# EAGLE library part FPC-SOCKET-60P-0.5 (library Connector)
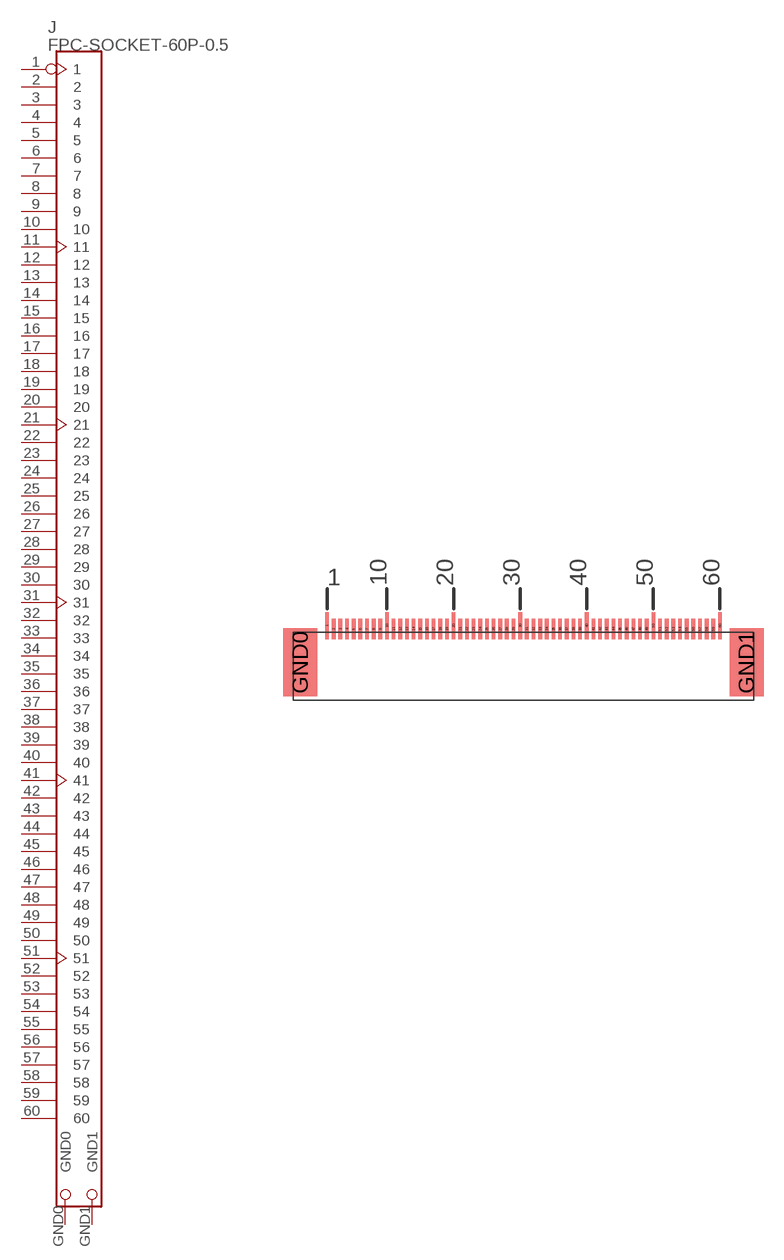
[diagram p4: symbol with the pads of 60P-0.5-90D; footprint 60P-0.5-90D]

Designator prefix J

## FPC-SOCKET-60P-0.5-SOCKET  [60P-0.5-90D]
1  1
2  2
3  3
4  4
5  5
6  6
7  7
8  8
9  9
10  10
11  11
12  12
13  13
14  14
15  15
16  16
17  17
18  18
19  19
20  20
21  21
22  22
23  23
24  24
25  25
26  26
27  27
28  28
29  29
30  30
31  31
32  32
33  33
34  34
35  35
36  36
37  37
38  38
39  39
40  40
41  41
42  42
43  43
44  44
45  45
46  46
47  47
48  48
49  49
50  50
51  51
52  52
53  53
54  54
55  55
56  56
57  57
58  58
59  59
60  60
GND0  GND0
GND1  GND1

## Footprint 60P-0.5-90D (pad centres in mm)
smd 0.279 x 2.032: 1 -14.75,0.254; 10 -10.25,0.254; 20 -5.25,0.254; 30 -0.25,0.254; 40 4.75,0.254; 50 9.75,0.254; 60 14.75,0.254
smd 0.279 x 1.524: 2 -14.25,0; 3 -13.75,0; 4 -13.25,0; 5 -12.75,0; 6 -12.25,0; 7 -11.75,0; 8 -11.25,0; 9 -10.75,0; 11 -9.75,0; 12 -9.25,0; 13 -8.75,0; 14 -8.25,0; 15 -7.75,0; 16 -7.25,0; 17 -6.75,0; 18 -6.25,0; 19 -5.75,0; 21 -4.75,0; 22 -4.25,0; 23 -3.75,0; 24 -3.25,0; 25 -2.75,0; 26 -2.25,0; 27 -1.75,0; 28 -1.25,0; 29 -0.75,0; 31 0.25,0; 32 0.75,0; 33 1.25,0; 34 1.75,0; 35 2.25,0; 36 2.75,0; 37 3.25,0; 38 3.75,0; 39 4.25,0; 41 5.25,0; 42 5.75,0; 43 6.25,0; 44 6.75,0; 45 7.25,0; 46 7.75,0; 47 8.25,0; 48 8.75,0; 49 9.25,0; 51 10.25,0; 52 10.75,0; 53 11.25,0; 54 11.75,0; 55 12.25,0; 56 12.75,0; 57 13.25,0; 58 13.75,0; 59 14.25,0
smd 2.54 x 5.08: GND0 -16.75,-2.5; GND1 16.75,-2.5